# Altium footprint library Connectors.PcbLib: 27 footprints (part 2 of 2)
Each footprint in its own frame and in the unit in brackets; x right, y up, seen from the top. Pads: shape width x height; smd on the part's side, far side on the other; paste and mask are expansions set on the pad; w line width, h text height; cw(c..) or ccw(c..) is an arc to the next point about the centre after c.
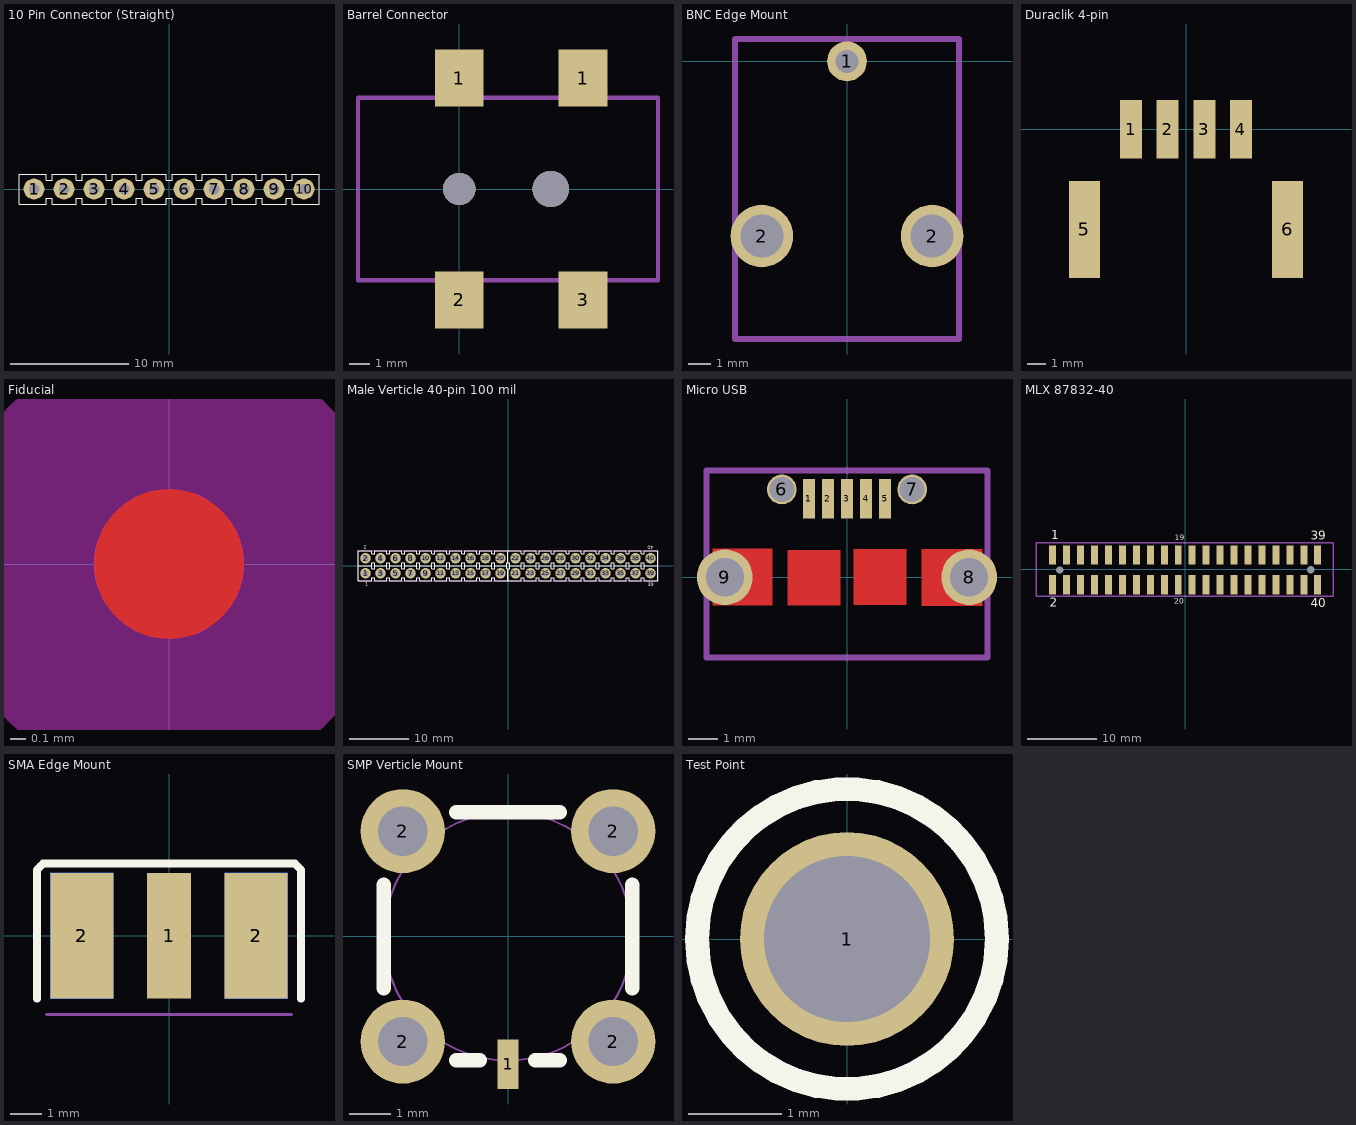
[diagram p1: the footprints below, top view; thin cyan lines are the x and y axes]

## 10 Pin Connector (Straight) [mil] "10 Pin,  0.1\" pitch, Through Hole (Straight)"
height 330
pads (10):
  round 70 hole 35: 1(-450,0) 2(-350,0) 3(-250,0) 4(-150,0) 5(-50,0) 6(50,0) 7(150,0) 8(250,0) 9(350,0) 10(450,0)
Top Overlay:
  lines w3.94: -410,-50 -500,-50 -500,50 -410,50 ; -410,-30 -390,-30 ; -410,30 -390,30 ; -390,-50 -310,-50 ; -390,50 -310,50 ; -310,-30 -290,-30 ; -310,30 -290,30 ; -290,-50 -210,-50 ; -290,50 -210,50 ; -210,-30 -190,-30 ; -210,30 -190,30 ; -190,-50 -110,-50 ; -190,50 -110,50 ; -110,-30 -90,-30 ; -110,30 -90,30 ; -90,-50 -10,-50 ; -90,50 -10,50 ; -10,-30 10,-30 ; -10,30 10,30 ; 10,-50 90,-50 ; 10,50 90,50 ; 90,-30 110,-30 ; 90,30 110,30 ; 110,-50 190,-50 ; 110,50 190,50 ; 190,-30 210,-30 ; 190,30 210,30 ; 210,-50 290,-50 ; 210,50 290,50 ; 290,-30 310,-30 ; 290,30 310,30 ; 310,-50 390,-50 ; 310,50 390,50 ; 390,-30 410,-30 ; 390,30 410,30 ; 410,-50 500,-50 500,50 410,50
  lines w4: -410,-50 -410,-30 ; -410,30 -410,50 ; -390,-50 -390,-30 ; -390,30 -390,50 ; -310,-50 -310,-30 ; -310,30 -310,50 ; -290,-50 -290,-30 ; -290,30 -290,50 ; -210,-50 -210,-30 ; -210,30 -210,50 ; -190,-50 -190,-30 ; -190,30 -190,50 ; -110,-50 -110,-30 ; -110,30 -110,50 ; -90,-50 -90,-30 ; -90,30 -90,50 ; -10,-50 -10,-30 ; -10,30 -10,50 ; 10,-50 10,-30 ; 10,30 10,50 ; 90,-50 90,-30 ; 90,30 90,50 ; 110,-50 110,-30 ; 110,30 110,50 ; 190,-50 190,-30 ; 190,30 190,50 ; 210,-50 210,-30 ; 210,30 210,50 ; 290,-50 290,-30 ; 290,30 290,50 ; 310,-50 310,-30 ; 310,30 310,50 ; 390,-50 390,-30 ; 390,30 390,50 ; 410,-50 410,-30 ; 410,30 410,50
3D body: height 100, standoff 0, extent -499.98,-49.98 -410.02,49.98
3D body: height 100, standoff 0, extent 410.02,-49.98 499.98,49.98
3D body: height 100, standoff 0, extent -389.98,-49.98 -310.02,49.98
3D body: height 100, standoff 0, extent -289.98,-49.98 -210.02,49.98
3D body: height 100, standoff 0, extent -189.98,-49.98 -110.02,49.98
3D body: height 100, standoff 0, extent -89.96,-49.96 -10,50
3D body: height 100, standoff 0, extent 10.02,-49.98 89.98,49.98
3D body: height 100, standoff 0, extent 110.02,-49.98 189.98,49.98
3D body: height 100, standoff 0, extent 210.02,-49.98 289.98,49.98
3D body: height 100, standoff 0, extent 310.02,-49.98 389.98,49.98
3D body: height 70, standoff 0, extent -409.98,-29.98 -390.02,29.98
3D body: height 70, standoff 0, extent -309.98,-29.98 -290.02,29.98
3D body: height 70, standoff 0, extent -209.98,-29.98 -190.02,29.98
3D body: height 70, standoff 0, extent -109.98,-29.98 -90.02,29.98
3D body: height 70, standoff 0, extent -9.98,-29.98 9.98,29.98
3D body: height 70, standoff 0, extent 90.02,-29.98 109.98,29.98
3D body: height 70, standoff 0, extent 190.02,-29.98 209.98,29.98
3D body: height 70, standoff 0, extent 290.02,-29.98 309.98,29.98
3D body: height 70, standoff 0, extent 390.02,-29.98 409.98,29.98
3D body: height 430, standoff -100, extent -460,-10 -440,10
3D body: height 430, standoff -100, extent -360,-10 -340,10
3D body: height 430, standoff -100, extent -260,-10 -240,10
3D body: height 430, standoff -100, extent -160,-10 -140,10
3D body: height 430, standoff -100, extent -60,-10 -40,10
3D body: height 430, standoff -100, extent 40,-10 60,10
3D body: height 430, standoff -100, extent 140,-10 160,10
3D body: height 430, standoff -100, extent 240,-10 260,10
3D body: height 430, standoff -100, extent 340,-10 360,10
3D body: height 430, standoff -100, extent 440,-10 460,10

## Barrel Connector [mm] "SMT RA"
height 11
pads (4):
  rect 2.4x2.8 smd: 1(0,5.475) 1(6.1,5.475) 2(0,-5.475) 3(6.1,-5.475)
via 4.5,0 diameter 1.8 hole 1.8
via 0,0 diameter 1.6 hole 1.6
Mechanical 13:
  lines w0.203: -5,-4.5 9.5,-4.5 9.8,-4.5 9.8,4.5 9.5,4.5 -5,4.5 -5,-4.5
3D body: height 11.25, standoff -0.95, extent -5.012,-6.299 9.788,6.301

## BNC Edge Mount [mil] "BNC Female Board Edge Connector"
height 338.58
pads (3):
  round 70 hole 40: 1(0,0)
  round 110 hole 75: 2(-149.61,-307.09) 2(149.61,-307.09)
Mechanical 13:
  lines w10: -196.85,-488.19 -157.48,-488.19 165.35,-488.19 196.85,-488.19 196.85,39.37 -196.85,39.37 -196.85,-488.19
  text "EDGE OF BOARD" at -82.68,-472.44 h30
3D body: height 338.58, standoff 0, extent -169.29,-488.19 165.35,39.37

## Duraclik 4-pin [mm] "4-pin RA SMD 2MM connector header"
height 6.4
pads (6):
  rect 1.2x3.2 smd: 1(-3,0) 2(-1,0) 3(1,0) 4(3,0)
  rect 1.7x5.3 smd: 5(-5.55,-5.475) 6(5.55,-5.475)
3D body: height 6.44, standoff 0.04, extent -5.975,-8.1 6.025,1.3

## Fiducial [mil]
Top Layer:
  circle w19.68: c0,0 r9.84
Top Layer keep-out:
  circle w39.37: c0,0 r39.37
Top Solder:
  circle w59.06: c0,0 r29.53

## Male Verticle 40-pin 100 mil [mil] "2x20 100 mil"
height 328.35
pads (40):
  round 70 hole 39.37: 1(-950,-50) 2(-950,50) 3(-850,-50) 4(-850,50) 5(-750,-50) 6(-750,50) 7(-650,-50) 8(-650,50) 9(-550,-50) 10(-550,50) 11(-450,-50) 12(-450,50) 13(-350,-50) 14(-350,50) 15(-250,-50) 16(-250,50) 17(-150,-50) 18(-150,50) 19(-50,-50) 20(-50,50) 21(50,-50) 22(50,50) 23(150,-50) 24(150,50) 25(250,-50) 26(250,50) 27(350,-50) 28(350,50) 29(450,-50) 30(450,50) 31(550,-50) 32(550,50) 33(650,-50) 34(650,50) 35(750,-50) 36(750,50) 37(850,-50) 38(850,50) 39(950,-50) 40(950,50)
Top Overlay:
  drawing of 312 lines, arcs and shapes, not listed
  text "40" at 972.44,133.86 h25
  text "39" at 931.1,-134.84 h25
  text "2" at -940.94,132.87 h25
  text "1" at -952.76,-133.86 h25
Mechanical 13:
  lines w8: -1000,-100 -1000,100 1000,100 1000,-100 -1000,-100
3D body: height 70, standoff 0, extent -9.98,20.02 9.98,79.98
3D body: height 100, standoff 0, extent -89.98,0.02 -10.02,99.98
3D body: height 100, standoff 0, extent 10.02,0.02 89.98,99.98
3D body: height 70, standoff 0, extent -9.98,-79.98 9.98,-20.02
3D body: height 100, standoff 0, extent -89.98,-99.98 -10.02,-0.02
3D body: height 100, standoff 0, extent 10,-99.98 89.96,-0.02
3D body: height 100, standoff 0, extent 910,0.02 999.96,99.98
3D body: height 100, standoff 0, extent 810,0.02 889.96,99.98
3D body: height 100, standoff 0, extent 710,0.02 789.96,99.98
3D body: height 100, standoff 0, extent 610,0.02 689.96,99.98
3D body: height 100, standoff 0, extent 509.98,0 589.94,99.96
3D body: height 100, standoff 0, extent 410,0.02 489.96,99.98
3D body: height 100, standoff 0, extent 310,0.02 389.96,99.98
3D body: height 100, standoff 0, extent 210,0.02 289.96,99.98
3D body: height 100, standoff 0, extent 110,0.02 189.96,99.98
3D body: height 70, standoff 0, extent 890,20.02 909.96,79.98
3D body: height 70, standoff 0, extent 790,20.02 809.96,79.98
3D body: height 70, standoff 0, extent 690,20.02 709.96,79.98
3D body: height 70, standoff 0, extent 590,20.02 609.96,79.98
3D body: height 70, standoff 0, extent 490,20.02 509.96,79.98
3D body: height 70, standoff 0, extent 390,20.02 409.96,79.98
3D body: height 70, standoff 0, extent 290,20.02 309.96,79.98
3D body: height 70, standoff 0, extent 190,20.02 209.96,79.98
3D body: height 70, standoff 0, extent 90,20.02 109.96,79.98
3D body: height 430, standoff -100, extent 939.98,40 959.98,60
3D body: height 430, standoff -100, extent 839.98,40 859.98,60
3D body: height 430, standoff -100, extent 739.98,40 759.98,60
3D body: height 430, standoff -100, extent 639.98,40 659.98,60
3D body: height 430, standoff -100, extent 539.98,40 559.98,60
3D body: height 430, standoff -100, extent 439.98,40 459.98,60
3D body: height 430, standoff -100, extent 339.98,40 359.98,60
3D body: height 430, standoff -100, extent 239.98,40 259.98,60
3D body: height 430, standoff -100, extent 139.98,40 159.98,60
3D body: height 430, standoff -100, extent 39.98,40 59.98,60
3D body: height 100, standoff 0, extent 910,-99.98 999.96,-0.02
3D body: height 100, standoff 0, extent 810,-99.98 889.96,-0.02
3D body: height 100, standoff 0, extent 710,-99.98 789.96,-0.02
3D body: height 100, standoff 0, extent 610,-99.98 689.96,-0.02
3D body: height 100, standoff 0, extent 509.98,-100 589.94,-0.04
3D body: height 100, standoff 0, extent 410,-99.98 489.96,-0.02
3D body: height 100, standoff 0, extent 310,-99.98 389.96,-0.02
3D body: height 100, standoff 0, extent 210,-99.98 289.96,-0.02
3D body: height 100, standoff 0, extent 110,-99.98 189.96,-0.02
3D body: height 70, standoff 0, extent 890,-79.98 909.96,-20.02
3D body: height 70, standoff 0, extent 790,-79.98 809.96,-20.02
3D body: height 70, standoff 0, extent 690,-79.98 709.96,-20.02
3D body: height 70, standoff 0, extent 590,-79.98 609.96,-20.02
3D body: height 70, standoff 0, extent 490,-79.98 509.96,-20.02
3D body: height 70, standoff 0, extent 390,-79.98 409.96,-20.02
3D body: height 70, standoff 0, extent 290,-79.98 309.96,-20.02
3D body: height 70, standoff 0, extent 190,-79.98 209.96,-20.02
3D body: height 70, standoff 0, extent 90,-79.98 109.96,-20.02
3D body: height 430, standoff -100, extent 939.98,-60 959.98,-40
3D body: height 430, standoff -100, extent 839.98,-60 859.98,-40
3D body: height 430, standoff -100, extent 739.98,-60 759.98,-40
3D body: height 430, standoff -100, extent 639.98,-60 659.98,-40
3D body: height 430, standoff -100, extent 539.98,-60 559.98,-40
3D body: height 430, standoff -100, extent 439.98,-60 459.98,-40
3D body: height 430, standoff -100, extent 339.98,-60 359.98,-40
3D body: height 430, standoff -100, extent 239.98,-60 259.98,-40
3D body: height 430, standoff -100, extent 139.98,-60 159.98,-40
3D body: height 430, standoff -100, extent 39.98,-60 59.98,-40
3D body: height 100, standoff 0, extent -999.96,-99.98 -910,-0.02
3D body: height 100, standoff 0, extent -889.96,-99.98 -810,-0.02
3D body: height 100, standoff 0, extent -789.96,-99.98 -710,-0.02
3D body: height 100, standoff 0, extent -689.96,-99.98 -610,-0.02
3D body: height 100, standoff 0, extent -589.94,-99.96 -509.98,0
3D body: height 100, standoff 0, extent -489.96,-99.98 -410,-0.02
3D body: height 100, standoff 0, extent -389.96,-99.98 -310,-0.02
3D body: height 100, standoff 0, extent -289.96,-99.98 -210,-0.02
3D body: height 100, standoff 0, extent -189.96,-99.98 -110,-0.02
3D body: height 70, standoff 0, extent -909.96,-79.98 -890,-20.02
3D body: height 70, standoff 0, extent -809.96,-79.98 -790,-20.02
3D body: height 70, standoff 0, extent -709.96,-79.98 -690,-20.02
3D body: height 70, standoff 0, extent -609.96,-79.98 -590,-20.02
3D body: height 70, standoff 0, extent -509.96,-79.98 -490,-20.02
3D body: height 70, standoff 0, extent -409.96,-79.98 -390,-20.02
3D body: height 70, standoff 0, extent -309.96,-79.98 -290,-20.02
3D body: height 70, standoff 0, extent -209.96,-79.98 -190,-20.02
3D body: height 70, standoff 0, extent -109.96,-79.98 -90,-20.02
3D body: height 430, standoff -100, extent -959.98,-60 -939.98,-40
3D body: height 430, standoff -100, extent -859.98,-60 -839.98,-40
3D body: height 430, standoff -100, extent -759.98,-60 -739.98,-40
3D body: height 430, standoff -100, extent -659.98,-60 -639.98,-40
3D body: height 430, standoff -100, extent -559.98,-60 -539.98,-40
3D body: height 430, standoff -100, extent -459.98,-60 -439.98,-40
3D body: height 430, standoff -100, extent -359.98,-60 -339.98,-40
3D body: height 430, standoff -100, extent -259.98,-60 -239.98,-40
3D body: height 430, standoff -100, extent -159.98,-60 -139.98,-40
3D body: height 430, standoff -100, extent -59.98,-60 -39.98,-40
3D body: height 100, standoff 0, extent -999.96,0.02 -910,99.98
3D body: height 100, standoff 0, extent -889.96,0.02 -810,99.98
3D body: height 100, standoff 0, extent -789.96,0.02 -710,99.98
3D body: height 100, standoff 0, extent -689.96,0.02 -610,99.98
3D body: height 100, standoff 0, extent -589.94,0.04 -509.98,100
3D body: height 100, standoff 0, extent -489.96,0.02 -410,99.98
3D body: height 100, standoff 0, extent -389.96,0.02 -310,99.98
3D body: height 100, standoff 0, extent -289.96,0.02 -210,99.98
3D body: height 100, standoff 0, extent -189.96,0.02 -110,99.98
3D body: height 70, standoff 0, extent -909.96,20.02 -890,79.98
3D body: height 70, standoff 0, extent -809.96,20.02 -790,79.98
3D body: height 70, standoff 0, extent -709.96,20.02 -690,79.98
3D body: height 70, standoff 0, extent -609.96,20.02 -590,79.98
3D body: height 70, standoff 0, extent -509.96,20.02 -490,79.98
3D body: height 70, standoff 0, extent -409.96,20.02 -390,79.98
3D body: height 70, standoff 0, extent -309.96,20.02 -290,79.98
3D body: height 70, standoff 0, extent -209.96,20.02 -190,79.98
3D body: height 70, standoff 0, extent -109.96,20.02 -90,79.98
3D body: height 430, standoff -100, extent -959.98,40 -939.98,60
3D body: height 430, standoff -100, extent -859.98,40 -839.98,60
3D body: height 430, standoff -100, extent -759.98,40 -739.98,60
3D body: height 430, standoff -100, extent -659.98,40 -639.98,60
3D body: height 430, standoff -100, extent -559.98,40 -539.98,60
3D body: height 430, standoff -100, extent -459.98,40 -439.98,60
3D body: height 430, standoff -100, extent -359.98,40 -339.98,60
3D body: height 430, standoff -100, extent -259.98,40 -239.98,60
3D body: height 430, standoff -100, extent -159.98,40 -139.98,60
3D body: height 430, standoff -100, extent -59.98,40 -39.98,60

## Micro USB [mm] "SMT RA"
height 3.1
pads (10):
  rect 0.4x1.35 smd: 1(-1.3,2.675) 1(-1.3,2.675) 2(-0.65,2.675) 3(0,2.675) 4(0.65,2.675) 5(1.3,2.675)
  round 1.016 hole 0.85 unplated: 6(-2.225,3) 7(2.225,3)
  round 1.9 hole 1.3 unplated: 8(4.175,0) 9(-4.175,0)
Top Layer:
  region: -0.229,0.94 -2.032,0.94 -2.032,-0.965 -0.229,-0.965
  rectangle: 0.229,-0.94 2.032,0.965
  region: 4.625,0.965 2.54,0.965 2.54,-0.975 4.625,-0.975
  rectangle: -4.6,-0.965 -2.54,0.975
Mechanical 13:
  lines w0.203: -4.801,-2.743 4.801,-2.743 4.801,3.65 -4.801,3.65 -4.801,-2.743
3D body: height 0.14, standoff -3.18, extent -4.275,-2.719 4.375,3.175

## MLX 87832-40 [mm] "40 pin vertical shrouded header"
height 7.6
pads (43):
  round 0 hole 1.05 unplated: 0(-18,-0.15) 0(18,-0.1)
  rect 1x2.75 smd: 1(-19,2) 2(-19,-2.25) 2(-19,-2.25) 3(-17,2) 4(-17,-2.25) 5(-15,2) 6(-15,-2.25) 7(-13,2) 8(-13,-2.25) 9(-11,2) 10(-11,-2.25) 11(-9,2) 12(-9,-2.25) 13(-7,2) 14(-7,-2.25) 15(-5,2) 16(-5,-2.25) 17(-3,2) 18(-3,-2.25) 19(-1,2) 20(-1,-2.25) 21(1,2) 22(1,-2.25) 23(3,2) 24(3,-2.25) 25(5,2) 26(5,-2.25) 27(7,2) 28(7,-2.25) 29(9,2) 30(9,-2.25) 31(11,2) 32(11,-2.25) 33(13,2) 34(13,-2.25) 35(15,2) 36(15,-2.25) 37(17,2) 38(17,-2.25) 39(19,2) 40(19,-2.25)
Top Overlay:
  text "39" at 18,4.175 h1.27
  text "40" at 18,-5.45 h1.27
  text "20" at -1.55,-5 h0.76
  text "19" at -1.475,4.125 h0.76
  text "2" at -19.4,-5.375 h1.27
  text "1" at -19.2,4.3 h1.27
Mechanical 13:
  lines w0.203: -21.4,-3.9 21.25,-3.9 21.25,-3.3 21.25,3.75 21.2,3.8 -21.4,3.8 -21.4,-3.9
3D body: height 7.59, standoff -0.76, extent -21.4,-3.3 21.25,3

## SMA Edge Mount [mm] "Straight Edge Mount PCB Jack"
height 4.34
pads (5):
  rect 1.4x4 smd paste-25.4: 1(0,0)
  rect 2x4 smd paste-25.4: 2(-2.77,0) 2(2.77,0)
  rect 2x4 smd far side paste-25.4: 2(-2.77,0) 2(2.77,0)
Top Overlay:
  lines w0.254: -4.2,-2 -4.2,2.1 -4.1,2.2 -4,2.3 4,2.3 4.2,2.1 4.2,-2
Mechanical 13:
  lines w0.1: -3.9,-2.5 3.9,-2.5
3D body: height 1.02, standoff 0, extent 2.4,-2.5 3.2,1.3
3D body: height 0.76, standoff 0, extent -0.379,-2.5 0.379,1.3
3D body: height 1.02, standoff 0, extent -3.2,-2.5 -2.4,1.3
3D body: height 4.34, standoff -2.01, extent -3.2,-4.1 3.2,-2.5
3D body: height -0.79, standoff -2.01, extent -3.2,-2.5 -2.4,1.3
3D body: height -0.79, standoff -2.01, extent 2.4,-2.5 3.2,1.3
3D body: height 3.98, standoff -1.6, extent -2.794,-12 2.795,-4.1

## SMP Verticle Mount [mil] "Molex SMP Verticle Mount"
height 4.1
pads (5):
  rect 19.68x47.24 smd: 1(0,-121.5)
  round 80 hole 47: 2(-100,-100) 2(-100,100) 2(100,-100) 2(100,100)
Top Overlay:
  lines w13.78: -118.11,-49.21 -118.11,49.21 ; -49.21,-118 -27,-117.8 ; -49.21,118.11 49.21,118.11 ; 26,-117.8 49.21,-118 ; 118,-49.21 118,49.21
Mechanical 13:
  circle w1.97: c0,0 r118
3D body: height 161.42, standoff 0, extent -117.07,-117.76 118,117.77
3D body: height 15.75, standoff 0, extent -7.87,-137.69 7.87,-118
3D body: height 51.18, standoff 0, extent -118,-118 118,118
3D body: height 0, standoff -98, extent 88,-112 112,-88
3D body: height 0, standoff -98, extent 88,88 112,112
3D body: height 0, standoff -98, extent -112,88 -88,112
3D body: height 0, standoff -98, extent -112,-112 -88,-88

## Test Point [mil] "Multipurpose Test Point"
height 320
pads (1):
  round 90 hole 70: 1(0,0)
Top Overlay:
  circle w10: c0,0 r63.07
3D body: height 320, standoff 0, extent -16,-50 16,50
3D body: height 120, standoff 0, extent -63.36,-63.36 63.36,63.36